# Altium footprint library JDY-40.PcbLib: 1 footprints
Each footprint in its own frame and in the unit in brackets; x right, y up, seen from the top. Pads: shape width x height; smd on the part's side, far side on the other; paste and mask are expansions set on the pad; w line width, h text height; cw(c..) or ccw(c..) is an arc to the next point about the centre after c.
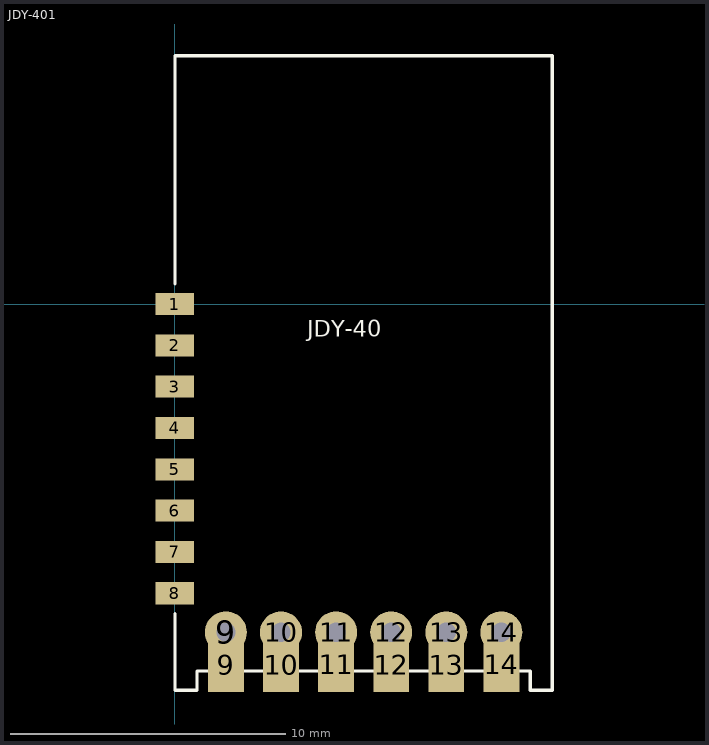
[diagram p0: the footprint, top view; thin cyan lines are the x and y axes]

## JDY-401 [mm]
pads (20):
  rect 1.4x0.8 smd: 1(0,0) 2(0,-1.5) 3(0,-3) 4(0,-4.5) 5(0,-6) 6(0,-7.5) 7(0,-9) 8(0,-10.5)
  rect 1.3x2 smd: 9(1.85,-13.092) 10(3.85,-13.092) 11(5.85,-13.092) 12(7.85,-13.092) 13(9.85,-13.092) 14(11.85,-13.092)
  round 1.524 hole 0.7: 9(1.85,-11.918) 10(3.85,-11.918) 11(5.85,-11.918) 12(7.85,-11.918) 13(9.85,-11.918) 14(11.85,-11.918)
Top Layer:
  lines w0.051: 1.85,-13.092 1.85,-11.918 ; 3.85,-13.092 3.85,-11.918 ; 5.85,-13.092 5.85,-11.918 ; 7.85,-13.092 7.85,-11.918 ; 9.85,-13.092 9.85,-11.918 ; 11.85,-13.092 11.85,-11.918
  lines w0.17: 7.636,-11.704 7.85,-11.918
  lines w0.5: 1.85,-13.319 1.85,-11.918 1.85,-11.694
Top Overlay:
  lines w0.12: 0,-11.234 0,-14.019 0.8,-14.019 0.8,-13.319 12.9,-13.319 12.9,-14.019 13.7,-14.019 13.7,-13.319 13.7,9.012 ; 0,0.729 0,9.012 ; 0,9.012 13.7,9.012 ; 0,9.012 13.7,9.012
  text "JDY-40" at 4.801,-1.179 h0.6